# Altium schematic symbol library ERA-6ARW472V.SchLib: 1 symbol
Pins are listed as number, name and electrical type; pins without a type are passive.

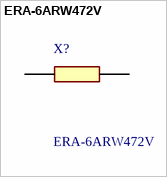
[diagram p0: symbol ERA-6ARW472V]

## ERA-6ARW472V
designator X?
Thin Film Resistors - SMD 0805 4.7Kohm 0.05% 10ppm AEC-Q200; Manufacturer_Name: Panasonic; Geometry.Height: 0.6mm; Mouser Part Number: 667-ERA-6ARW472V; Mouser Price/Stock: https://www.mouser.co.uk/ProductDetail/Panasonic/ERA-6ARW472V?qs=ob%252BdNz2%252BYEgbYp9qzrbNPA%3D%3D; Manufacturer_Part_Number: ERA-6ARW472V; Datasheet Link: https://industrial.panasonic.com/cdbs/www-data/pdf/RDM0000/AOA0000C307.pdf
footprint ERA6AEB101V
pins: 1, 2